# EAGLE library part HEADER_2X7 (library SIM900D)
Complete header 2x16 for SIM900D Useful to conect one board to another.
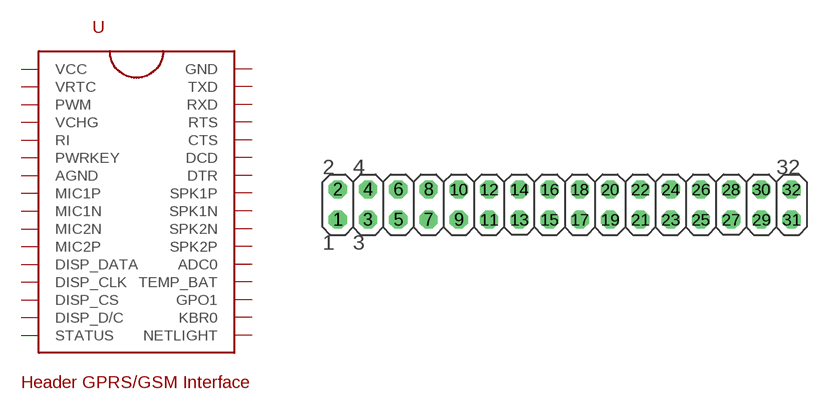
[diagram p1: symbol with the pads of HEADER_2X7; footprint HEADER_2X7]

Designator prefix -

## HEADER_2X7  [HEADER_2X7]
1  VCC
2  GND
3  VRTC
4  TXD
5  PWM
6  RXD
7  VCHG
8  RTS
9  RI
10  CTS
11  PWRKEY
12  DCD
13  AGND
14  DTR
15  MIC1P
16  SPK1P
17  MIC1N
18  SPK1N
19  MIC2N
20  SPK2N
21  MIC2P
22  SPK2P
23  DISP_DATA
24  ADC0
25  DISP_CLK
26  TEMP_BAT
27  DISP_CS
28  GPO1
29  DISP_D/C
30  KBR0
31  STATUS
32  NETLIGHT

## Footprint HEADER_2X7 (pad centres in mm)
drill 1.016 octagon: 1 -21.59,-1.27; 2 -21.59,1.27; 3 -19.05,-1.27; 4 -19.05,1.27; 5 -16.51,-1.27; 6 -16.51,1.27; 7 -13.97,-1.27; 8 -13.97,1.27; 9 -11.43,-1.27; 10 -11.43,1.27; 11 -8.89,-1.27; 12 -8.89,1.27; 13 -6.35,-1.27; 14 -6.35,1.27; 15 -3.81,-1.27; 16 -3.81,1.27; 17 -1.27,-1.27; 18 -1.27,1.27; 19 1.27,-1.27; 20 1.27,1.27; 21 3.81,-1.27; 22 3.81,1.27; 23 6.35,-1.27; 24 6.35,1.27; 25 8.89,-1.27; 26 8.89,1.27; 27 11.43,-1.27; 28 11.43,1.27; 29 13.97,-1.27; 30 13.97,1.27; 31 16.51,-1.27; 32 16.51,1.27